# Altium integrated library IntegratedCircuit.IntLib: 199 symbols (part 3 of 3)
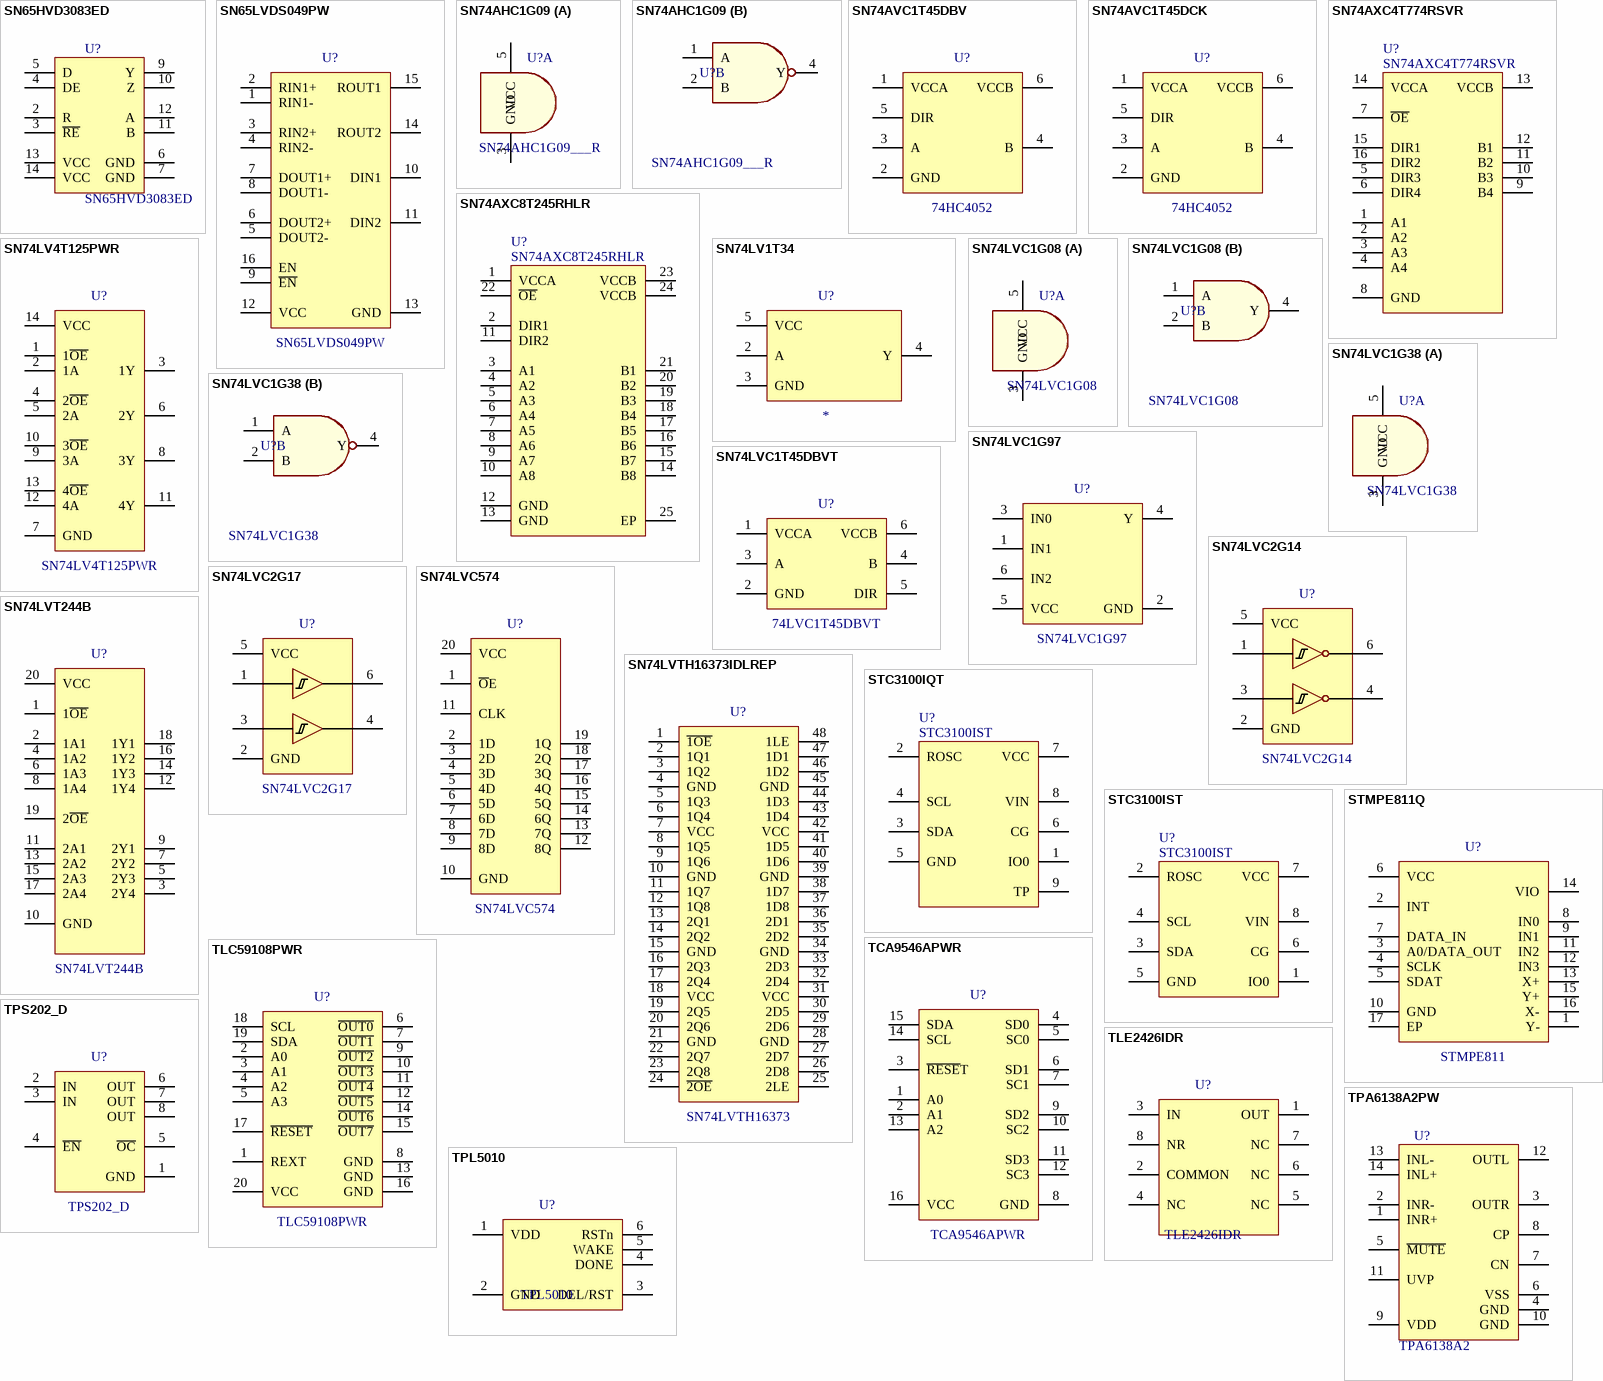
[diagram p11: symbols SN65HVD3083ED to TPS202_D]

## SN74LVC2G17
designator U?
Dual Schmitt-Trigger Buffer; Value: SN74LVC2G17
footprint SOT23-6 P0.95 C1.5x3.0 H1.3 (SOT23, 6-Leads, Body 1.6x3.0mm, Pitch 0.95mm, IPC Medium Density)
pins: 1 1A, 2 GND, 3 2A, 4 2Y, 5 VCC, 6 1Y

## SN74LVC574
designator U?
OCTAL EDGE-TRIGGERED D-TYPE FLIP-FLOPS; Value: SN74LVC574
footprint TSSOP20 P0.65 C6.6X4.4 H1.2 (TSOP, 20-Leads, Body 6.60x4.40mm, Pitch 0.65mm, IPC Medium Density)
footprint SO20 P1.27 C7.5X12.8 H2.7 (SOIC, 20-Leads, Body 12.80x7.50mm, Pitch 1.27mm, IPC Medium Density)
pins: 1 ~{O}E, 2 1D, 3 2D, 4 3D, 5 4D, 6 5D, 7 6D, 8 7D, 9 8D, 10 GND, 11 CLK, 12 8Q, 13 7Q, 14 6Q, 15 5Q, 16 4Q, 17 3Q, 18 2Q, 19 1Q, 20 VCC

## SN74LVT244B
designator U?
3.3-V ABT OCTAL BUFFER/DRIVER  WITH 3-STATE OUTPUTS; Value: SN74LVT244B
footprint TSSOP20 P0.65 C6.6X4.4 H1.2 (TSOP, 20-Leads, Body 6.60x4.40mm, Pitch 0.65mm, IPC Medium Density)
footprint SO20 P1.27 C7.5X12.8 H2.7 (SOIC, 20-Leads, Body 12.80x7.50mm, Pitch 1.27mm, IPC Medium Density)
pins: 1 1~{OE}, 2 1A1, 3 2Y4, 4 1A2, 5 2Y3, 6 1A3, 7 2Y2, 8 1A4, 9 2Y1, 10 GND, 11 2A1, 12 1Y4, 13 2A2, 14 1Y3, 15 2A3, 16 1Y2, 17 2A4, 18 1Y1, 19 2~{OE}, 20 VCC

## SN74LVTH16373IDLREP
designator U?, comment SN74LVTH16373
Single-Bit Dual-Supply Bus Transceiver; Value: SN74LVTH16373
footprint SSOP48 P0.635 C7.6X16 H2.8 (SOP, 48-Leads, Body 16x7.6mm, Pitch 0.635mm, IPC Medium Density)
pins: 1 ~{1OE}, 2 1Q1, 3 1Q2, 4 GND, 5 1Q3, 6 1Q4, 7 VCC, 8 1Q5, 9 1Q6, 10 GND, 11 1Q7, 12 1Q8, 13 2Q1, 14 2Q2, 15 GND, 16 2Q3, 17 2Q4, 18 VCC, 19 2Q5, 20 2Q6, 21 GND, 22 2Q7, 23 2Q8, 24 ~{2OE}, 25 2LE, 26 2D8, 27 2D7, 28 GND, 29 2D6, 30 2D5, 31 VCC, 32 2D4, 33 2D3, 34 GND, 35 2D2, 36 2D1, 37 1D8, 38 1D7, 39 GND, 40 1D6, 41 1D5, 42 VCC, 43 1D4, 44 1D3, 45 GND, 46 1D2, 47 1D1, 48 1LE

## STC3100IQT
designator U?, comment STC3100IST
Battery monitor IC with Coulomb counter/gas gauge; Value: STC3100IST
footprint DFN8 P0.5 T1.6x2.5 C3.0X3.0 H1.0 (DFN8, Body 3.0x3.0, Pitch 0.5mm, Thermal Pad 1.6x2.5mm)
pins: 1 IO0, 2 ROSC, 3 SDA, 4 SCL, 5 GND, 6 CG, 7 VCC, 8 VIN, 9 TP

## STC3100IST
designator U?
Battery monitor IC with Coulomb counter/gas gauge; Value: STC3100IST
footprint MSOP8 P0.65 C3.0X3.0 H1.1 (MSOP, 8-Leads, Body 3.00x3.00mm, Pitch 0.65mm, IPC Medium Density)
pins: 1 IO0, 2 ROSC, 3 SDA, 4 SCL, 5 GND, 6 CG, 7 VCC, 8 VIN

## STMPE811Q
designator U?, comment STMPE811
Advanced resistive touch screen controller  with 8-bit GPIO expander; Value: STMPE811
footprint QFN16 P0.5 T1.5x1.5 C3.0x3.0 H1.0
pins: 1 Y-, 2 INT, 3 A0/DATA_OUT, 4 SCLK, 5 SDAT, 6 VCC, 7 DATA_IN, 8 IN0, 9 IN1, 10 GND, 11 IN2, 12 IN3, 13 X+, 14 VIO, 15 Y+, 16 X-, 17 EP

## TCA9546APWR
designator U?
Low Voltage 4-Channel I2C and SMBus Switch with Reset Function; Value: TCA9546APWR
footprint TSSOP16 P0.65 C5.0x4.5 H1.1 (TSSOP-16 NXP)
pins: 1 A0, 2 A1, 3 ~{RESE}T, 4 SD0, 5 SC0, 6 SD1, 7 SC1, 8 GND, 9 SD2, 10 SC2, 11 SD3, 12 SC3, 13 A2, 14 SCL, 15 SDA, 16 VCC

## TLC59108PWR
designator U?
8-Bit Fm+ I  2C-Bus Constant-Current LED Sink Driver; Value: TLC59108PWR
footprint SSOP20 P0.65 C4.5x6.6 H1.2 (SSOP, 20-Leads, Body 4.5x6.6mm, Pitch 0.65mm, IPC Medium Density)
pins: 1 REXT "No internal connection", 2 A0 "Address input 0", 3 A1 "Address input 1", 4 A2 "Address input 2", 5 A3 "Address input 3", 6 ~{OUT0} "Constant current output 0, LED ON at low", 7 ~{OUT1} "Constant current output 1, LED ON at low", 8 GND "Ground", 9 ~{OUT2} "Constant current output 2, LED ON at low", 10 ~{OUT3} "Constant current output 3, LED ON at low", 11 ~{OUT4} "Constant current output 4, LED ON at low", 12 ~{OUT5} "Constant current output 5, LED ON at low", 13 GND "Ground", 14 ~{OUT6} "Constant current output 6, LED ON at low", 15 ~{OUT7} "Constant current output 7, LED ON at low", 16 GND "Ground", 17 ~{RESET} "Active-low reset input", 18 SCL "Serial clock input", 19 SDA "Serial data input/output", 20 VCC "Power supply"

## TLE2426IDR
designator U?
Références de tension Rail Virtual Ground; Manufacturer: Texas Instruments; Value: TLE2426IDR; Mouser No.: 595-TLE2426IDR
footprint SO8 P1.27 C4.0X5.0 H1.75 (8-Pin Small Outline Integrated Circuit 1.27 mm Pitch, IPC Medium Density)
pins: 1 OUT "Ground", 2 COMMON "Input voltage", 3 IN "Input voltage", 4 NC "Enable input. Logic-low turns on power switch.", 5 NC "Overcurrent. Logic output, active-low", 6 NC "Power-switch output", 7 NC "Power-switch output", 8 NR "Power-switch output"

## TPA6138A2PW
designator U?, comment TPA6138A2
DirectPath Headphone Driver With Adjustable Gain; Value: TPA6138A2
footprint TSSOP14 P0.65 C4.4x5.0 H1.1 (TSSOP, 14-Leads, Body 5x4.4mm, Pitch 0.65mm, IPC Medium Density)
pins: 1 INR+ "Right-channel OPAMP positive input", 2 INR- "Right-channel OPAMP negative input", 3 OUTR "Right-channel OPAMP output", 4 GND "Ground", 5 ~{MUTE} "Mute, active-low", 6 VSS "Supply voltage", 7 CN "Charge-pump flying capacitor negative connection", 8 CP "Charge-pump flying capacitor positive connection", 9 VDD "Positive supply", 10 GND "Ground", 11 UVP "Undervoltage protection; internal pull-up, unconnected if UVP function is unused.", 12 OUTL "Left-channel OPAMP output", 13 INL- "Left-channel OPAMP negative input", 14 INL+ "Left-channel OPAMP positive input"

## TPL5010
designator U?
Nano-PowerSystemTimer With WatchdogFunction; Value: TPL5010
footprint SOT23-6 P0.95 C1.5x3.0 H1.3 (SOT23, 6-Leads, Body 1.6x3.0mm, Pitch 0.95mm, IPC Medium Density)
pins: 1 VDD, 2 GND, 3 DEL/RST, 4 DONE, 5 WAKE, 6 RSTn

## TPS202_D
designator U?
Power distribution switch; Value: TPS202_D
footprint SO8 P1.27 C4.0X5.0 H1.75 (8-Pin Small Outline Integrated Circuit 1.27 mm Pitch, IPC Medium Density)
pins: 1 GND "Ground", 2 IN "Input voltage", 3 IN "Input voltage", 4 ~{EN} "Enable input. Logic-low turns on power switch.", 5 ~{OC} "Overcurrent. Logic output, active-low", 6 OUT "Power-switch output", 7 OUT "Power-switch output", 8 OUT "Power-switch output"

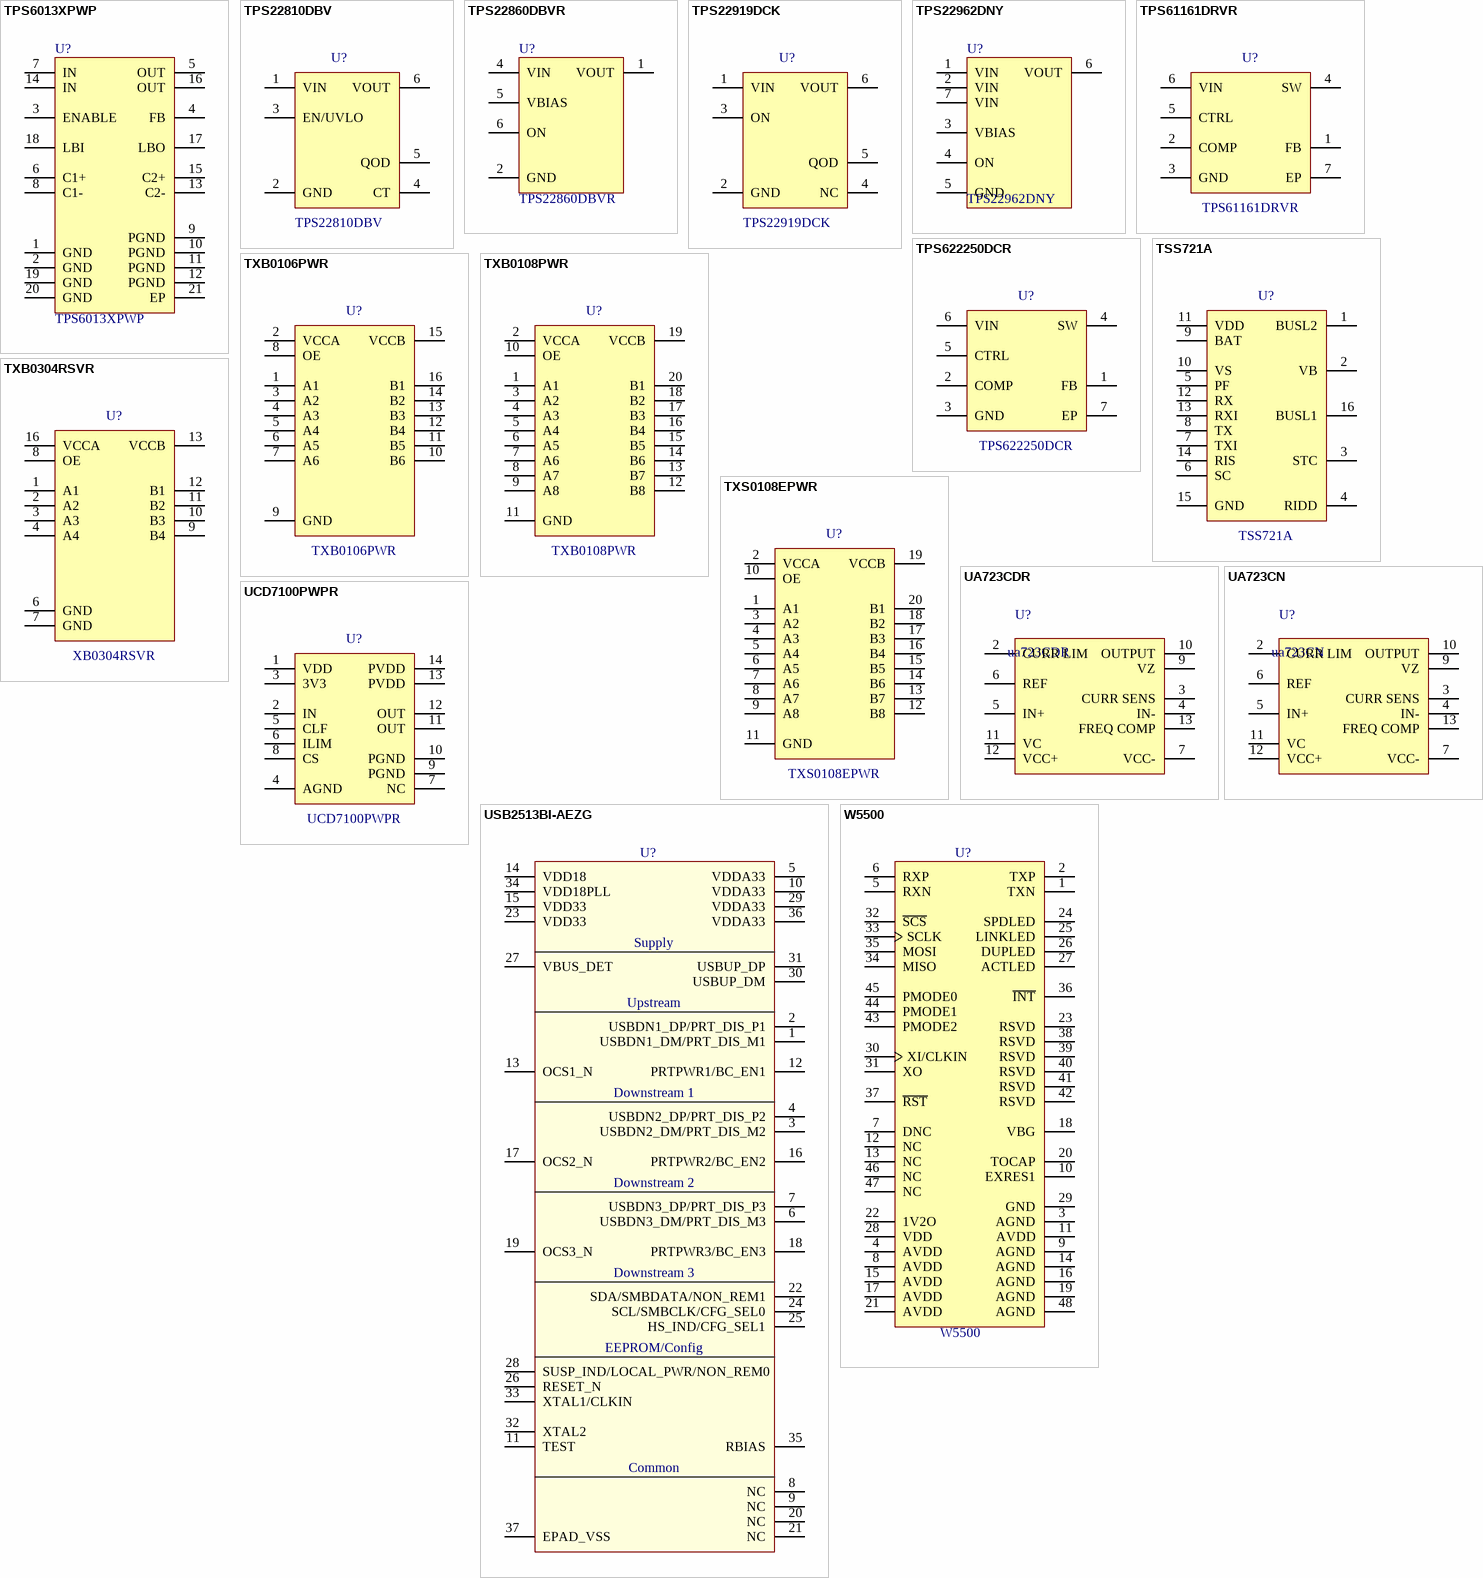
[diagram p9: symbols TPS6013XPWP to W5500]

## TPS6013XPWP
designator U?
Regulated 5-V, 300-mA High-Efficiency Charge Pump DC-DC Converters; Value: TPS6013XPWP
footprint TSSOP20 P0.65 T2.4x3.4 C4.4x6.6 H1.2 (SOP, 20-Leads, Body 6.4x4.4mm, Pitch 0.65mm, Thermal Pad 2.4x3.4mm, IPC Medium Density)
pins: 1 GND (power) "Ground. Analog ground for internal reference and control circuitry. Connect to PGND through a short trace.", 2 GND (power) "Ground. Analog ground for internal reference and control circuitry. Connect to PGND through a short trace.", 3 ENABLE "ENABLE input. Connect ENABLE to IN for normal operation. When ENABLE is a logic low, the device turns off and the supply current decreases to 0.05 uA. The output is disconnected from the input when the device is placed in (See Datasheet)", 4 FB "Feedback input. Connect FB to OUT as close to the load as possible to achieve best regulation. Resistive divider is on the chip to match the internal reference voltage of 1.21 V.", 5 OUT (power) "Regulated power output. Connect both OUT terminals through a short trace and bypass OUT to GND with the output filter capacitor CO.", 6 C1+ "Positive terminal of the flying capacitor C1", 7 IN (power) "Supply input. Connect to an input supply in the 1.8-V to 3.6-V range. Bypass IN to PGND with a (CO/2) uF capacitor.Connect both INs through a short trace.", 8 C1- "Negative terminal of the flying capacitor C1", 9 PGND (power) "Power ground. Charge-pump current flows through this pin. Connect all PGND pins together.", 10 PGND (power) "Power ground. Charge-pump current flows through this pin. Connect all PGND pins together.", 11 PGND (power) "Power ground. Charge-pump current flows through this pin. Connect all PGND pins together.", 12 PGND (power) "Power ground. Charge-pump current flows through this pin. Connect all PGND pins together.", 13 C2- "Negative terminal of the flying capacitor C2", 14 IN (power) "Supply input. Connect to an input supply in the 1.8-V to 3.6-V range. Bypass IN to PGND with a (CO/2) uF capacitor.Connect both INs through a short trace.", 15 C2+ "Positive terminal of the flying capacitor C2", 16 OUT (power) "Regulated power output. Connect both OUT terminals through a short trace and bypass OUT to GND with the output filter capacitor CO.", 17 LBO (hiz) "Low battery detector output or power good output. Open drain output of the low battery or power-good comparator.It can sink 1 mA. A 100-kohm to 1-Mohm pullup is recommended. Leave terminal unconnected if not used.", 18 LBI "Low battery detector input (TPS60120/TPS60122/TPS60124 only). The input is compared to the internal 1.21-V reference voltage. Connect terminal to ground if the low-battery detector function is not used. On the (See Datasheet)", 19 GND (power) "Ground. Analog ground for internal reference and control circuitry. Connect to PGND through a short trace.", 20 GND (power) "Ground. Analog ground for internal reference and control circuitry. Connect to PGND through a short trace.", 21 EP "The Thermal Pad."

## TPS22810DBV
designator U?
Load Switch With Thermal Protection; Value: TPS22810DBV
footprint SOT23-6 P0.95 C1.5x3.0 H1.3 (SOT23, 6-Leads, Body 1.6x3.0mm, Pitch 0.95mm, IPC Medium Density)
pins: 1 VIN "Ground", 2 GND "Input voltage", 3 EN/UVLO "Input voltage", 4 CT "Enable input. Logic-low turns on power switch.", 5 QOD "Overcurrent. Logic output, active-low", 6 VOUT "Power-switch output"

## TPS22860DBVR
designator U?
Ultra-Low Leakage Load Switch; Value: TPS22860DBVR
footprint SOT23-6 P0.95 C1.5x3.0 H1.3 (SOT23, 6-Leads, Body 1.6x3.0mm, Pitch 0.95mm, IPC Medium Density)
pins: 1 VOUT "Power-switch output", 2 GND "Input voltage", 4 VIN "Ground", 5 VBIAS "Overcurrent. Logic output, active-low", 6 ON "Input voltage"

## TPS22919DCK
designator U?
Load Switch, Self-Protected with Controlled Rise Time; Value: TPS22919DCK
footprint SC70-6 P0.65 C1.4x2.2 H1.0 (SC70, 6-Leads, Body 2.2x1.40mm, Pitch 0.65mm, IPC Medium Density)
pins: 1 VIN "Ground", 2 GND "Input voltage", 3 ON "Input voltage", 4 NC "Enable input. Logic-low turns on power switch.", 5 QOD "Overcurrent. Logic output, active-low", 6 VOUT "Power-switch output"

## TPS22962DNY
designator U?
Ultra-low RON Single Channel Load Switch; Value: TPS22962DNY
footprint TPS22962DNY (6-Pin Wide Small Outline Integrated Circuit 0.65mm Pitch)
pins: 1 VIN "Ground", 2 VIN "Ground", 3 VBIAS "Overcurrent. Logic output, active-low", 4 ON "Input voltage", 5 GND "Input voltage", 6 VOUT "Power-switch output", 7 VIN "Ground"

## TPS61161DRVR
designator U?
White LED Drivers With Digital and PWM Brightness Control; Value: TPS61161DRVR
footprint WSON6  P0.65 T1.6X1.0 C2.0X2.0 H0.8 (6-Pin Wide Small Outline Integrated Circuit 0.65mm Pitch)
pins: 1 FB, 2 COMP, 3 GND, 4 SW, 5 CTRL, 6 VIN, 7 EP

## TPS622250DCR
designator U?
White LED Drivers With Digital and PWM Brightness Control; Value: TPS622250DCR
footprint WSON6  P0.65 T1.6X1.0 C2.0X2.0 H0.8 (6-Pin Wide Small Outline Integrated Circuit 0.65mm Pitch)
pins: 1 FB, 2 COMP, 3 GND, 4 SW, 5 CTRL, 6 VIN, 7 EP

## TSS721A
designator U?
Meter-Bus Transceiver; Value: TSS721A
footprint SO16 P1.27 C4.0x10.2 H1.75 (SOIC, 16-Leads, Body 4.0x10.20mm, Pitch 1.27mm, IPC Medium Density)
pins: 1 BUSL2, 2 VB, 3 STC, 4 RIDD, 5 PF, 6 SC, 7 TXI, 8 TX, 9 BAT, 10 VS, 11 VDD, 12 RX, 13 RXI, 14 RIS, 15 GND, 16 BUSL1

## TXB0106PWR
designator U?
6-Bit Bidirectional Level-Shifting and Voltage Translator / With Auto-Direction Sensing and ±15-kV ESD Protection; Value: TXB0106PWR
footprint TSSOP16 P0.65 C5.0x4.5 H1.1 (TSSOP-16 NXP)
pins: 1 A1, 2 VCCA, 3 A2, 4 A3, 5 A4, 6 A5, 7 A6, 8 OE, 9 GND, 10 B6, 11 B5, 12 B4, 13 B3, 14 B2, 15 VCCB, 16 B1

## TXB0108PWR
designator U?
8-Bit Bidirectional Voltage-Level Translator with Auto-Direction Sensing and  ±15-kV ESD Protection; Value: TXB0108PWR
footprint TSSOP20 P0.65 C6.6X4.4 H1.2 (TSOP, 20-Leads, Body 6.60x4.40mm, Pitch 0.65mm, IPC Medium Density)
pins: 1 A1, 2 VCCA, 3 A2, 4 A3, 5 A4, 6 A5, 7 A6, 8 A7, 9 A8, 10 OE, 11 GND, 12 B8, 13 B7, 14 B6, 15 B5, 16 B4, 17 B3, 18 B2, 19 VCCB, 20 B1

## TXB0304RSVR
designator U?, comment XB0304RSVR
4-Bit Bidirectional Level-Shifter/Voltage Translator with Automatic Direction  Sensing; Value: XB0304RSVR
footprint QFN16 P0.4 C1.8x2.6 H0.55 (QFN, 16-Leads, Body 1.8x2.6mm, Pitch 0.4mm, TI Recommended)
pins: 1 A1, 2 A2, 3 A3, 4 A4, 6 GND, 7 GND, 8 OE, 9 B4, 10 B3, 11 B2, 12 B1, 13 VCCB, 16 VCCA

## TXS0108EPWR
designator U?
TXS0108E 8-Bit Bi-directional, Level-Shifting, Voltage Translator  for Open-Drain and Push-Pull Applications; Value: TXS0108EPWR
footprint TSSOP20 P0.65 C6.6X4.4 H1.2 (TSOP, 20-Leads, Body 6.60x4.40mm, Pitch 0.65mm, IPC Medium Density)
pins: 1 A1, 2 VCCA, 3 A2, 4 A3, 5 A4, 6 A5, 7 A6, 8 A7, 9 A8, 10 OE, 11 GND, 12 B8, 13 B7, 14 B6, 15 B5, 16 B4, 17 B3, 18 B2, 19 VCCB, 20 B1

## UA723CDR
designator U?, comment ua723CDR
Precision voltage regulator; Value: ua723CDR
footprint SO14 P1.27 C4.0X8.8 H1.75 (SOIC, 14-Leads, Body 4.0X8.8mm, Pitch 1.27mm, IPC Medium Density)
pins: 2 CURR LIM, 3 CURR SENS, 4 IN-, 5 IN+, 6 REF, 7 VCC-, 9 VZ, 10 OUTPUT, 11 VC, 12 VCC+, 13 FREQ COMP

## UA723CN
designator U?, comment ua723CN
Precision voltage regulator; Value: ua723CN
footprint DIP14 P2.54 W7.62 H5.0 (14-Pin Dual in Line Integrated Circuit 2.54 Pitch, 7.62 Width, Case 20x6mm)
pins: 2 CURR LIM, 3 CURR SENS, 4 IN-, 5 IN+, 6 REF, 7 VCC-, 9 VZ, 10 OUTPUT, 11 VC, 12 VCC+, 13 FREQ COMP

## UCD7100PWPR
designator U?
Gate Drivers Digital Control Compatible Single; Manufacturer: Texas Instruments; Value: UCD7100PWPR; Mouser No.: 595-UCD7100PWPR
footprint HTSSOP14 P0.65 C4.4X5.0 (HTSOP, 14-Leads, Body 5.00x4.40mm, Pitch 0.65mm, Thermal Pad 2.31x2.46mm)
pins: 1 VDD "Input voltage", 2 IN "Input voltage", 3 3V3 "Enable input. Logic-low turns on power switch.", 4 AGND "Power-switch output", 5 CLF "Power-switch output", 6 ILIM "Power-switch output", 7 NC "Power-switch output", 8 CS "Overcurrent. Logic output, active-low", 9 PGND "Power-switch output", 10 PGND "Power-switch output", 11 OUT "Power-switch output", 12 OUT "Power-switch output", 13 PVDD "Power-switch output", 14 PVDD "Power-switch output"

## USB2513BI-AEZG
designator U?  (value not drawn)
USB 2.0 High-Speed 3-Port Hub Controller; Value: *
footprint QFN36 P0.5 T3.7X3.7 C6.0X6.0 H1.0
pins: 1 USBDN1_DM/PRT_DIS_M1, 2 USBDN1_DP/PRT_DIS_P1, 3 USBDN2_DM/PRT_DIS_M2, 4 USBDN2_DP/PRT_DIS_P2, 5 VDDA33, 6 USBDN3_DM/PRT_DIS_M3, 7 USBDN3_DP/PRT_DIS_P3, 8 NC, 9 NC, 10 VDDA33, 11 TEST, 12 PRTPWR1/BC_EN1, 13 OCS1_N, 14 VDD18, 15 VDD33, 16 PRTPWR2/BC_EN2, 17 OCS2_N, 18 PRTPWR3/BC_EN3, 19 OCS3_N, 20 NC, 21 NC, 22 SDA/SMBDATA/NON_REM1, 23 VDD33, 24 SCL/SMBCLK/CFG_SEL0, 25 HS_IND/CFG_SEL1, 26 RESET_N, 27 VBUS_DET, 28 SUSP_IND/LOCAL_PWR/NON_REM0, 29 VDDA33, 30 USBUP_DM, 31 USBUP_DP, 32 XTAL2, 33 XTAL1/CLKIN, 34 VDD18PLL, 35 RBIAS, 36 VDDA33, 37 EPAD_VSS
text: Supply; Upstream; Downstream 1; Downstream 2; Downstream 3; EEPROM/Config; Common

## W5500
designator U?
Hardwired TCP/IP embedded Ethernet controller; Value: W5500
footprint LQFP48 P0.5 C7.0X7.0 H1.6 (TSQFP, 48-Leads, Body 7.00x7.00mm, Pitch 0.50mm, IPC Medium Density)
pins: 1 TXN "TXP/TXN Signal Pair", 2 TXP "TXP/TXN Signal Pair", 3 AGND "Analog ground", 4 AVDD "Analog 3.3V power", 5 RXN "RXP/RXN Signal Pair", 6 RXP "RXP/RXN Signal Pair", 7 DNC "Do Not Connect Pin", 8 AVDD "Analog 3.3V power", 9 AGND "Analog ground", 10 EXRES1 "External Reference Resistor", 11 AVDD "Analog 3.3V power", 12 NC "Not connected", 13 NC "Not connected", 14 AGND "Analog ground", 15 AVDD "Analog 3.3V power", 16 AGND "Analog ground", 17 AVDD "Analog 3.3V power", 18 VBG "Band Gap Output Voltage, This pin will be measured as 1.2V at 25 degC. It must be left floating.", 19 AGND "Analog ground", 20 TOCAP "External Reference Capacitor, This pin must be connected to a 4.7uF capacitor. The trace length to capacitor should be short to stabilize the internal signals.", 21 AVDD "Analog 3.3V power", 22 1V2O "1.2V Regulator output voltage", 23 RSVD "It must be tied to GND.", 24 SPDLED "Speed LED, This shows the Speed status of the connected link.", 25 LINKLED "Link LED, This shows the Link status.", 26 DUPLED "Duplex LED, This shows the Duplex status for the connected link.", 27 ACTLED "Active LED, This shows that there is Carrier sense (CRS) from the active Physical Medium Sub-layer (PMD) during TX or RX activity.", 28 VDD "Digital 3.3V Power", 29 GND "Digital Ground", 30 XI/CLKIN "Crystal input / External Clock input", 31 XO "Crystal output, External 25MHz Crystal Output", 32 ~{SCS} "Chip Select for SPI bus, This pin can be asserted low to select W5500 in SPI interface.", 33 SCLK "SPI clock input, This pin is used to receive SPI Clock from SPI master.", 34 MISO "SPI master input slave(W5500) output", 35 MOSI "SPI master output slave(W5500) input", 36 ~{INT} "Interrupt output", 37 ~{RST} "Reset, RESET should be held low at least 500 us for W5500 reset.", 38 RSVD "Not connected", 39 RSVD "Not connected", 40 RSVD "Not connected", 41 RSVD "Not connected", 42 RSVD "Not connected", 43 PMODE2 "PHY Operation mode select pin", 44 PMODE1 "PHY Operation mode select pin", 45 PMODE0 "PHY Operation mode select pin", 46 NC "Not connected", 47 NC "Not connected", 48 AGND "Analog ground"